# Altium schematic symbol library LTC2951-1.SchLib: 1 symbol
Pins are listed as number, name and electrical type; pins without a type are passive.

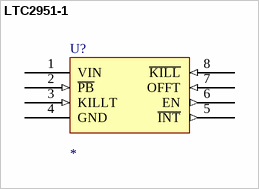
[diagram p0: symbol LTC2951-1]

## LTC2951-1
designator U?
pins: 1 VIN (power), 2 ~{PB} (in), 3 KILLT (in), 4 GND (power), 5 ~{INT} (out), 6 EN (out), 7 OFFT (in), 8 ~{KILL} (in)